# Altium footprint library PCB - CHOKE - MURATA DLW21H.PCBLIB: 1 footprints
Each footprint in its own frame and in the unit in brackets; x right, y up, seen from the top. Pads: shape width x height; smd on the part's side, far side on the other; paste and mask are expansions set on the pad; w line width, h text height; cw(c..) or ccw(c..) is an arc to the next point about the centre after c.
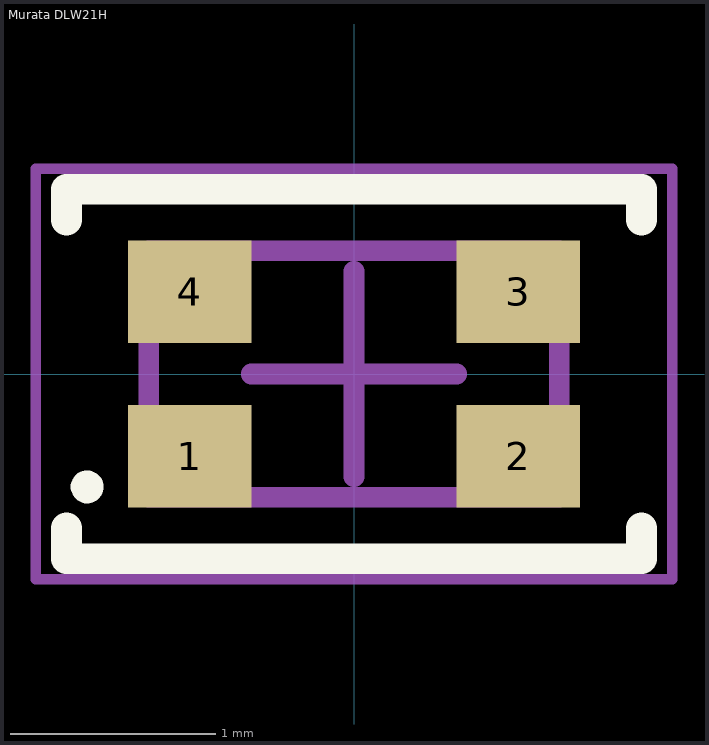
[diagram p0: the footprint, top view; thin cyan lines are the x and y axes]

## Murata DLW21H [mm] "Chip Choke, Body 2.0x1.2mm, IPC Medium Density"
height 1.4
pads (4):
  rect 0.6x0.5 smd mask+0.05: 1(-0.8,-0.4) 2(0.8,-0.4) 3(0.8,0.4) 4(-0.8,0.4)
Top Overlay:
  circle w0.1: c-1.3,-0.55 r0.03
  lines w0.15: -1.4,-0.75 -1.4,-0.9 1.4,-0.9 1.4,-0.75 ; -1.4,0.75 -1.4,0.9 1.4,0.9 1.4,0.75
Mechanical 13:
  lines w0.1: -1,-0.6 1,-0.6 1,0.6 -1,0.6 -1,-0.6
Mechanical 15:
  lines w0.05: -1.55,-1 -1.55,1 1.55,1 1.55,-1 -1.55,-1
  lines w0.1: -0.5,0 0.5,0 ; 0,-0.5 0,0.5
3D body "Murata - DLW21SN181SQ2L.STEP": height 1.4, standoff 0, extent -1,-0.6 1,0.6